# Altium schematic symbol library LIS3MDLTR.SchLib: 1 symbol
Pins are listed as number, name and electrical type; pins without a type are passive.

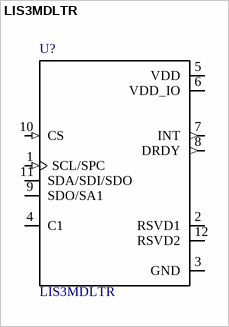
[diagram p0: symbol LIS3MDLTR]

## LIS3MDLTR
designator U?
LIS3MDL Series 3 Axis Â±2/Â±8/Â±12/Â±16 g 3.6V High Performance Magnetometer LGA-12; MF: STMicroelectronics; SnapEDA_Link: https://www.snapeda.com/parts/LIS3MDLTR/STMicroelectronics/view-part/?ref=snap; Digi-Key_Part_Number: 497-13892-1-ND; Digi-Key_Purchase_URL: https://www.digikey.com/product-detail/en/stmicroelectronics/LIS3MDLTR/497-13892-1-ND/4309737?utm_source=snapeda&utm_medium=aggregator&utm_campaign=symbol; Package: VFLGA-12 STMicroelectronics; MP: LIS3MDLTR; Value: *
footprint *XDCR_LIS3MDLTR
pins: 1 SCL/SPC (in), 2 RSVD1, 3 GND (power), 4 C1, 5 VDD (power), 6 VDD_IO (power), 7 INT (out), 8 DRDY (out), 9 SDO/SA1 (io), 10 CS (in), 11 SDA/SDI/SDO (io), 12 RSVD2